# Altium footprint library ece components.PcbLib: 102 footprints (part 6 of 7)
Each footprint in its own frame and in the unit in brackets; x right, y up, seen from the top. Pads: shape width x height; smd on the part's side, far side on the other; paste and mask are expansions set on the pad; w line width, h text height; cw(c..) or ccw(c..) is an arc to the next point about the centre after c.
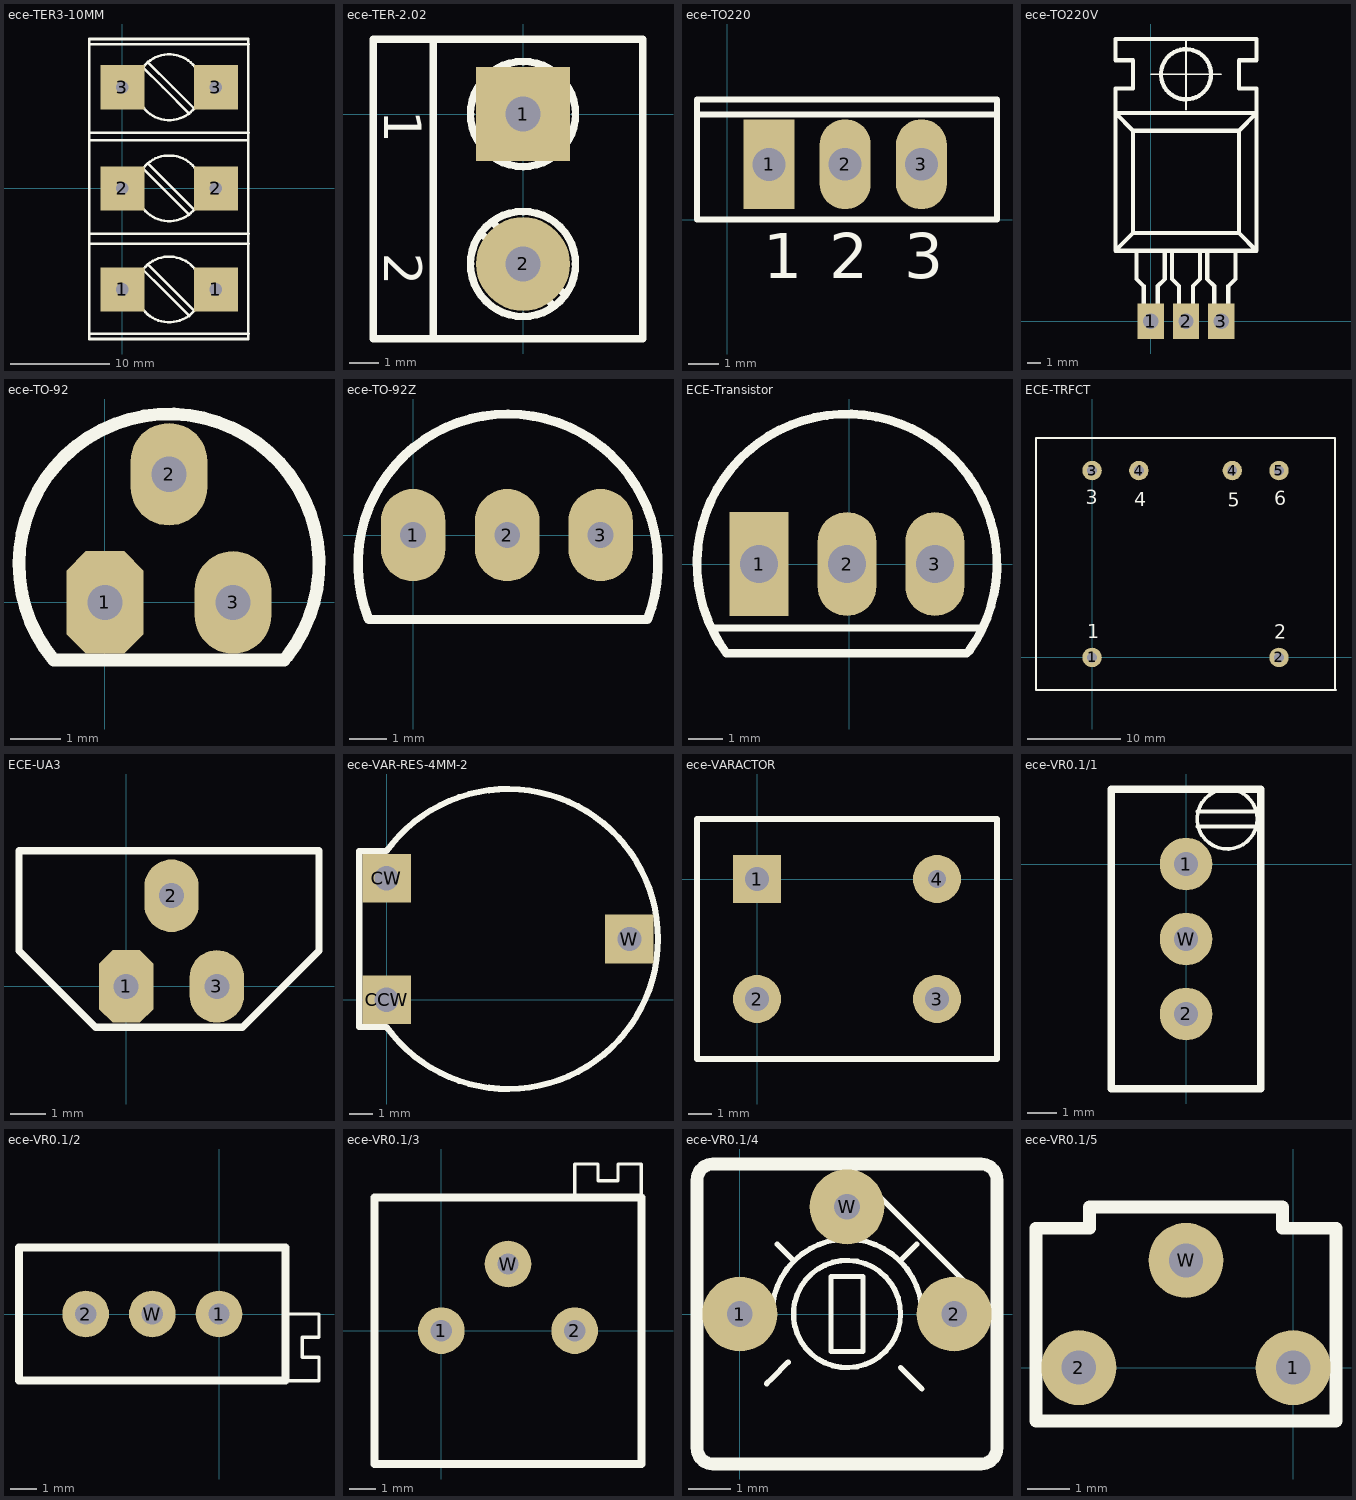
[diagram p5: the footprints below, top view; thin cyan lines are the x and y axes]

## ece-TER3-10MM [mil]
pads (6):
  rect 175x175 hole 50: 1(0,-400) 1(370,-400) 2(0,0) 2(370,0) 3(0,400) 3(370,400)
Top Overlay:
  circle w10: c185,0 r130
  circle w10: c185,-400 r130
  circle w10: c185,400 r130
  lines w10: -131,190 -131,590 ; -131,591 499,591 ; -130,-575 500,-575 ; -130,-220 500,-220 ; -130,-180 500,-180 ; -130,220 500,220 ; -130,570 500,570 ; 80,-320 160,-400 265,-505 ; 80,80 160,0 265,-105 ; 80,480 160,400 265,295 ; 100,-300 200,-400 285,-485 ; 100,100 200,0 285,-85 ; 100,500 200,400 285,315 ; 499,190 499,590 ; -131,-596 499,-596 499,191 -131,191 -131,-596

## ece-TER-2.02 [mm]
pads (2):
  rect 3.175x3.175 hole 1.2: 1(0,0)
  round 3.175 hole 1.2: 2(0,-5.08)
Top Overlay:
  circle w0.254: c0,-5.08 r1.778
  circle w0.254: c0,0 r1.778
  lines w0.254: -3.048,-7.62 -3.048,2.54 ; -1.397,-4.064 -0.381,-5.08 1.016,-6.477 ; -1.397,1.016 -0.381,0 1.016,-1.397 ; -1.016,-3.683 0.381,-5.08 1.397,-6.096 ; -1.016,1.397 0.381,0 1.397,-1.016 ; -5.08,-7.62 4.064,-7.62 4.064,2.54 -5.08,2.54 -5.08,-7.62
  text "1" at -4.699,0.127 h1.27
  text "2" at -4.699,-4.699 h1.27

## ece-TO220 [mm]
pads (3):
  rect 1.7x3 hole 1.1: 1(1.4,1.85)
  oval 1.7x3 hole 1.1: 2(3.94,1.85) 3(6.48,1.85)
Top Overlay:
  lines w0.2: -1,3.65 -1,0 ; -0.95,3.5 9,3.5 ; 0,0 9,0 9,4 -1,4 -1,0 ; 6.8,0 -1,0
  text "3" at 5.9,-1.95 h1.5
  text "2" at 3.4,-1.95 h1.5
  text "1" at 1.2,-1.95 h1.5

## ece-TO220V [mm]
pads (3):
  rect 1.905x2.54 hole 1.1: 1(0,0) 2(2.54,0) 3(5.08,0)
Top Overlay:
  circle w0.305: c2.54,17.78 r1.803
  lines w0.127: 0,17.78 5.08,17.78 ; 2.54,15.24 2.54,20.32
  lines w0.305: -2.413,5.207 -1.27,6.35 ; -1.016,5.08 -1.016,3.048 -0.508,2.54 -0.508,0 0.508,0 0.508,2.54 1.016,3.048 1.016,5.08 ; 1.524,5.08 1.524,3.048 2.032,2.54 2.032,0 3.048,0 3.048,2.54 3.556,3.048 3.556,5.08 ; 4.064,5.08 4.064,3.048 4.572,2.54 4.572,0 5.588,0 5.588,2.54 6.096,3.048 6.096,5.08 ; -1.27,6.35 6.35,6.35 ; -1.27,6.35 -1.27,13.716 ; -1.27,13.716 6.35,13.716 ; -1.27,13.716 -2.54,14.986 7.62,14.986 6.35,13.716 ; 6.35,6.35 6.35,13.716 ; 6.35,6.35 7.62,5.08 ; 7.62,5.08 -2.54,5.08 -2.54,16.764 -1.27,16.764 -1.27,18.796 -2.54,18.796 -2.54,20.32 7.62,20.32 7.62,18.796 6.35,18.796 6.35,16.764 7.62,16.764 7.62,5.08

## ece-TO-92 [mil]
pads (3):
  oct 60x80 hole 27.56: 1(0,0)
  oval 60x80 hole 27.56: 2(50,100) 3(100,0)
Top Overlay:
  lines w10: -39.92,-44.93 cw(c50,30) 142.39,-41.86 139.32,-44.93 ; -39.24,-45 140,-45

## ece-TO-92Z [mm]
pads (3):
  oval 1.75x2.5 hole 0.7: 1(0,0) 2(2.55,0) 3(5.08,0)
Top Overlay:
  lines w0.254: -1.206,-2.285 cw(c2.571,-0.783) 6.347,-2.286 -1.206,-2.285

## ECE-Transistor [mm] "BC639-flat"
pads (3):
  rect 1.7x3 hole 1.1: 1(-2.6,0)
  oval 1.7x3 hole 1.1: 2(-0.06,0) 3(2.48,0)
Top Overlay:
  lines w0.2: -4,-1.85 3.8,-1.85
  lines w0.254: 3.403,-2.582 -3.544,-2.582 cw(c-0.06,0) 3.479,-2.506

## ECE-TRFCT [mil] "Transformer- 2 sec windings"
height 984.25
pads (6):
  round 82 hole 42: 1(0,0) 2(787.4,0) 3(0,787.4) 4(196.85,787.4) 4(590.55,787.4) 5(787.4,787.4)
Top Overlay:
  lines w8: 1023.62,-137.8 1023.62,925.2 -236.22,925.2 -236.22,-137.8 1027.56,-137.8
  text "3" at -27.56,645.67 h59.06
  text "4" at 177.17,637.8 h59.06
  text "2" at 767.72,78.74 h59.06
  text "1" at -20,80 h59.06
  text "5" at 570.87,633.86 h59.06
  text "6" at 767.72,641.73 h59.06

## ECE-UA3 [mil]
pads (3):
  oct 60x80 hole 27.56: 1(0,0)
  oval 60x80 hole 27.56: 2(50,100) 3(100,0)
Top Overlay:
  lines w7.87: -118.11,39.37 -118.11,149.61 212.6,149.61 212.6,39.37 128.23,-45 -33.74,-45 -118.11,39.37

## ece-VAR-RES-4MM-2 [mil]
pads (3):
  rect 80x80 hole 40: CCW(0,0) CW(0,200) W(400,100)
Top Overlay:
  lines w10: -45,-45 -45,245 0,245 cw(c200,100) 447.03,100 cw(c200,100) 0,-45 -45,-45

## ece-VARACTOR [mil]
pads (4):
  rect 80x80 hole 40: 1(0,0)
  round 80 hole 40: 2(0,-200) 3(300,-200)
  round 80 hole 30: 4(300,0)
Top Overlay:
  lines w10: -100,-300 400,-300 400,100 -100,100 -100,-300

## ece-VR0.1/1 [mil] "Variable Resistor"
pads (3):
  round 70 hole 32: 1(0,0) 2(0,-200) W(0,-100)
Top Overlay:
  circle w5: c55,60 r40
  lines w5: 15,50 95,50 ; 15,70 95,70
  lines w10: -100,-300 -100,100 100,100 100,-300 -100,-300

## ece-VR0.1/2 [mil] "Variable Resistor"
pads (3):
  round 70 hole 32: 1(0,0) 2(-200,0) W(-100,0)
Top Overlay:
  lines w5: 100,-100 150,-100 150,-65 125,-65 125,-35 150,-35 150,0 100,0
  lines w12: -300,-100 100,-100 100,100 -300,100 -300,-100

## ece-VR0.1/3 [mil] "Variable Resistor"
pads (3):
  round 70 hole 32: 1(0,0) 2(200,0) W(100,100)
Top Overlay:
  lines w5: 200,200 200,250 235,250 235,225 265,225 265,250 300,250 300,200
  lines w12: -100,-200 300,-200 300,200 -100,200 -100,-200

## ece-VR0.1/4 [mil] "Variable Resistor"
pads (3):
  round 70 hole 24: 1(0,0) 2(200,0) W(100,100)
Top Overlay:
  circle w5: c100,0 r50
  lines w5: 5,0 30,0 cw(c100,0) 170,0 195,0 ; 25,-65 30,-60 45,-45 ; 35,65 50,50 ; 100,70 100,95 ; 100,140 240,0 ; 150,-50 170,-70 ; 150,50 165,65 ; 85,-35 115,-35 115,35 85,35 85,-35
  lines w12: -40,-125 ccw(c-25,-125) -25,-140 225,-140 ccw(c225,-125) 240,-125 240,125 ccw(c225,125) 225,140 -25,140 ccw(c-25,125) -40,125 -40,-125

## ece-VR0.1/5 [mil] "Variable Resistor"
pads (3):
  round 70 hole 32: 1(0,0) 2(-200,0) W(-100,100)
Top Overlay:
  lines w12: -240,-50 -240,130 -190,130 -190,150 -10,150 -10,130 40,130 40,-50 -240,-50